# Altium schematic symbol library TBP04R1-500-03BE.SchLib: 1 symbol
Pins are listed as number, name and electrical type; pins without a type are passive.

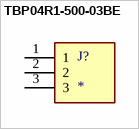
[diagram p0: symbol TBP04R1-500-03BE]

## TBP04R1-500-03BE
designator J?
Terminal Block - Domino - 3 pin; MF: Same Sky; MP: TBP04R1-500-03BE; SnapEDA_Link: https://www.snapeda.com/parts/TBP04R1-500-03BE/Same+Sky/view-part/?ref=snap; Package: None; Value: *; Check_prices: https://www.snapeda.com/parts/TBP04R1-500-03BE/Same+Sky/view-part/?ref=eda
footprint CUI_TBP04R1-500-03BE
pins: 1, 2, 3